# EAGLE library part HDMI_TYPE_A_SMD (library NewSDR)
HDMI Type A SMD Connector
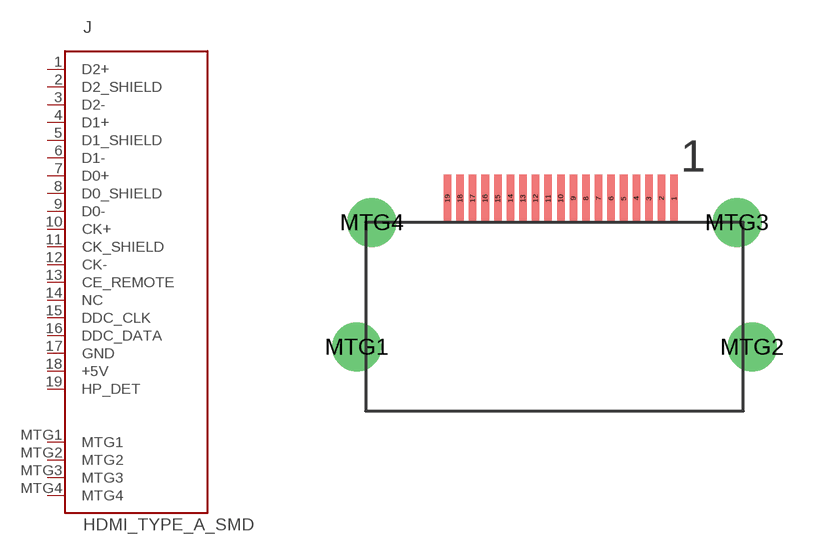
[diagram p167: symbol with the pads of HDMI_A_SMD; footprint HDMI_A_SMD]

Designator prefix J

## HDMI_TYPE_A_SMD  [HDMI_A_SMD]
1  D2+  pas
2  D2_SHIELD  pas
3  D2-  pas
4  D1+  pas
5  D1_SHIELD  pas
6  D1-  pas
7  D0+  pas
8  D0_SHIELD  pas
9  D0-  pas
10  CK+  pas
11  CK_SHIELD  pas
12  CK-  pas
13  CE_REMOTE  pas
14  NC  pas
15  DDC_CLK  pas
16  DDC_DATA  pas
17  GND  pas
18  +5V  pas
19  HP_DET  pas
MTG1  MTG1  pas
MTG2  MTG2  pas
MTG3  MTG3  pas
MTG4  MTG4  pas

## Footprint HDMI_A_SMD (pad centres in mm)
HDMI TYPE A RECEPTICAL SMD
smd 0.3 x 1.9: 1 4.75,0.95; 2 4.25,0.95; 3 3.75,0.95; 4 3.25,0.95; 5 2.75,0.95; 6 2.25,0.95; 7 1.75,0.95; 8 1.25,0.95; 9 0.75,0.95; 10 0.25,0.95; 11 -0.25,0.95; 12 -0.75,0.95; 13 -1.25,0.95; 14 -1.75,0.95; 15 -2.25,0.95; 16 -2.75,0.95; 17 -3.25,0.95; 18 -3.75,0.95; 19 -4.25,0.95
drill 1.3: MTG1 -7.85,-4.95; MTG2 7.85,-4.95; MTG3 7.25,0; MTG4 -7.25,0